# Altium schematic symbol library project_sch.SchLib: 8 symbols
Pins are listed as number, name and electrical type; pins without a type are passive.

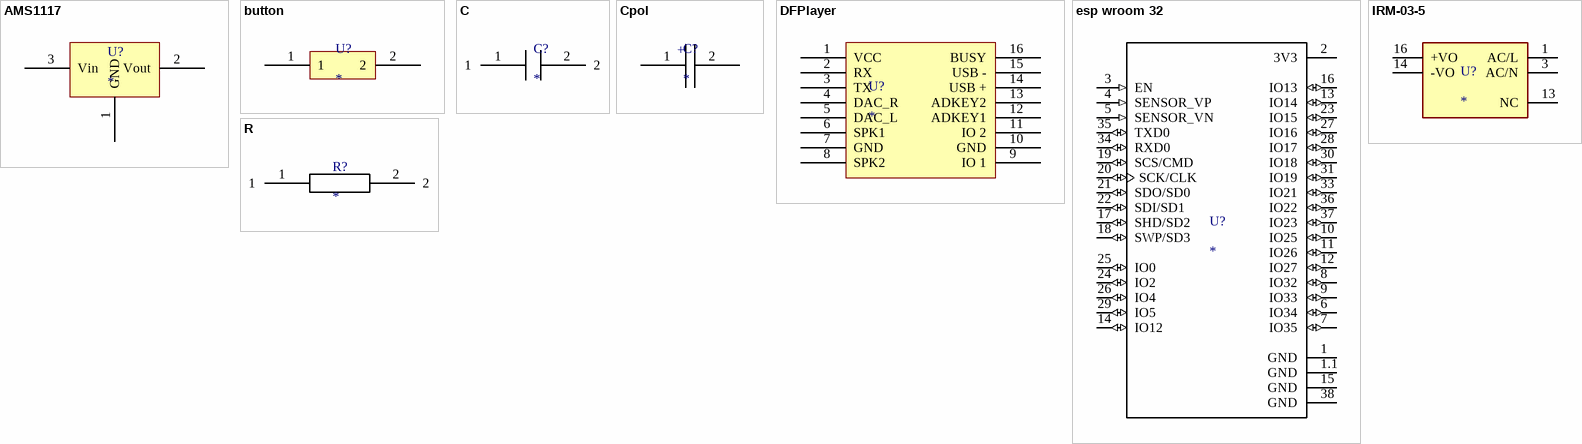
[diagram p0: symbols AMS1117 to R]

## AMS1117
designator U?
1A LOW DROPOUT VOLTAGE REGULATOR
footprint SOT229P700X180-4N (SOT223, 4-Leads, Body 6,50x7,00mm (avg), Pitch 2,29mm, IPC Medium Density)
pins: 1 GND, 2 Vout, 3 Vin

## button
designator U?
footprint button_pcb
pins: 1, 2

## C
designator C?
footprint CAP 0805 (Chip Capacitor, 2-Leads, Body 2,00x1,20mm, IPC Medium Density)
pins: 1, 2

## Cpol
designator C?
footprint SMD_capacitor
pins: 1, 2
text: +

## DFPlayer
designator U?
serial MP3 module
footprint DFPlayer
pins: 1 VCC, 2 RX, 3 TX, 4 DAC_R, 5 DAC_L, 6 SPK1, 7 GND, 8 SPK2, 9 IO 1, 10 GND, 11 IO 2, 12 ADKEY1, 13 ADKEY2, 14 USB +, 15 USB -, 16 BUSY

## esp wroom 32
designator U?
ESP32-WROOM-32 generic Wi-Fi+BT+BLE MCU module; ComponentLink1Description: product_page; ComponentLink1URL: https://www.espressif.com/sites/default/files/documentation/esp32-wroom-32_datasheet_en.pdf
footprint esp32
pins: 1 GND (power), 1.1 GND (power), 2 3V3 (power), 3 EN (in), 4 SENSOR_VP (in), 5 SENSOR_VN (in), 6 IO34 (io), 7 IO35 (io), 8 IO32 (io), 9 IO33 (io), 10 IO25 (io), 11 IO26 (io), 12 IO27 (io), 13 IO14 (io), 14 IO12 (io), 15 GND (power), 16 IO13 (io), 17 SHD/SD2 (io), 18 SWP/SD3 (io), 19 SCS/CMD (io), 20 SCK/CLK (io), 21 SDO/SD0 (io), 22 SDI/SD1 (io), 23 IO15 (io), 24 IO2 (io), 25 IO0 (io), 26 IO4 (io), 27 IO16 (io), 28 IO17 (io), 29 IO5 (io), 30 IO18 (io), 31 IO19 (io), 33 IO21 (io), 34 RXD0 (io), 35 TXD0 (io), 36 IO22 (io), 37 IO23 (io), 38 GND (power)

## IRM-03-5
designator U?
Modules d'alimentation CA/CC 85-305Vac 5Vout 600mA 3W PCM mnt; ComponentLink1Description: product_page; ComponentLink1URL: https://www.meanwell.com/productPdf.aspx?i=677#1
footprint IRM-03-5 (Alimentation montage PCB AC/DC (PSU), ITE et Médicale, 1 sortie, 3 W, 5 V, 600 mA)
pins: 1 AC/L, 3 AC/N, 13 NC, 14 -VO, 16 +VO

## R
designator R?
footprint RES 0805 (Chip Resistor, 2-Leads, Body 2,00x1,20mm, IPC Medium Density)
pins: 1, 2